# EAGLE library part ADC121S101 (library chips)
Analogue to Digital Converter, 12 bit, 1 MSPS, Single, 2.7 V, 5.25 V, SOT-23
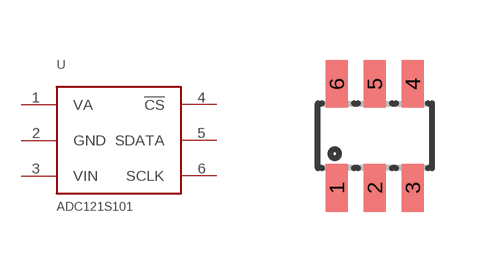
[diagram p34: symbol with the pads of SOT-23-6; footprint SOT-23-6]

Designator prefix -

## ADC121S101 (DIGIKEY: ADC121S101CIMF/NOPBCT-ND; MOUSER: 926-AD121S101CISDNPB; NEWARK: 96K6188)  [SOT-23-6]
1  VA
2  GND
3  VIN
4  !CS
5  SDATA
6  SCLK

## Footprint SOT-23-6 (pad centres in mm)
Small Outline Transistor
smd 0.55 x 1.2: 1 -0.95,-1.3; 2 0,-1.3; 3 0.95,-1.3; 4 0.95,1.3; 5 0,1.3; 6 -0.95,1.3